# Altium footprint library CameraCageBB.PcbLib: 29 footprints (part 1 of 2)
Each footprint in its own frame and in the unit in brackets; x right, y up, seen from the top. Pads: shape width x height; smd on the part's side, far side on the other; paste and mask are expansions set on the pad; w line width, h text height; cw(c..) or ccw(c..) is an arc to the next point about the centre after c.
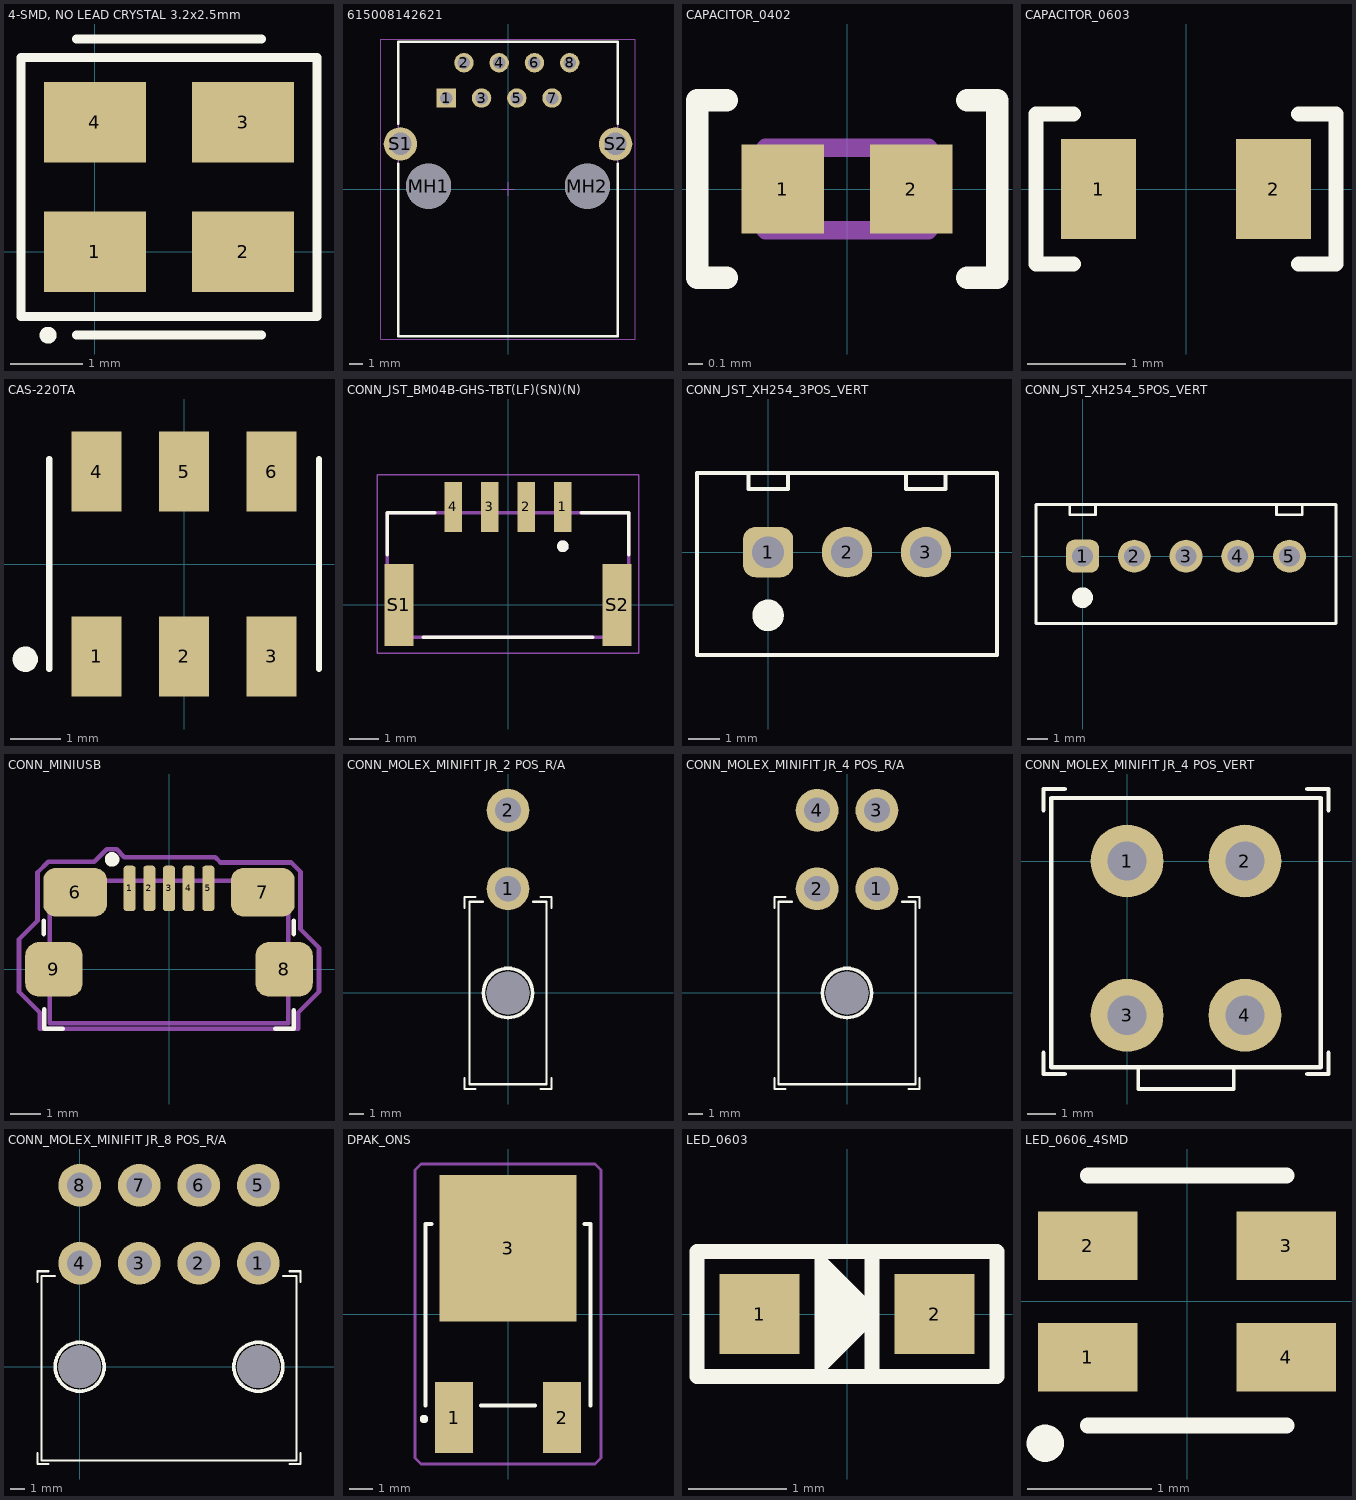
[diagram p0: the footprints below, top view; thin cyan lines are the x and y axes]

## 4-SMD, NO LEAD CRYSTAL 3.2x2.5mm [mm]
pads (4):
  rrect0% 1.4x1.1 smd: 1(0,0) 2(2.032,0) 3(2.032,1.778) 4(0,1.778)
Top Overlay:
  circle w0.127: c-0.644,-1.144 r0.052
  lines w0.127: -0.254,-1.143 2.286,-1.143 ; -0.254,2.921 2.286,2.921 ; -1.016,-0.889 -1.016,2.667 3.048,2.667 3.048,-0.889 -1.016,-0.889
3D body "User Library-Crystal_ECX-32.STEP": height 0.82, standoff 0, extent -0.584,-0.361 2.616,2.139

## 615008142621 [mm] "Modular Jack Horizontal Shielded Rear Grounding Post 8P8C Tab Down"
height 13.3
pads (12):
  rect 1.4x1.4 hole 0.9: 1(-4.445,6.55)
  round 1.4 hole 0.9: 2(-3.175,9.09) 3(-1.905,6.55) 4(-0.635,9.09) 5(0.635,6.55) 6(1.905,9.09) 7(3.175,6.55) 8(4.445,9.09)
  round 3.25 hole 3.25 unplated: MH1(-5.715,0.2) MH2(5.715,0.2)
  round 2.4 hole 1.6: S1(-7.75,3.25) S2(7.75,3.25)
Top Overlay:
  lines w0.2: -7.9,1.8 -7.9,-10.6 7.9,-10.6 7.9,1.8 ; -7.9,4.7 -7.9,10.6 7.9,10.6 7.9,4.7
Mechanical 13:
  lines w0.1: -7.9,-10.6 -7.9,10.6 7.9,10.6 7.9,-10.6 -7.9,-10.6
Mechanical 15:
  lines w0.05: -0.5,0 0.5,0 ; 0,-0.5 0,0.5 ; -9.15,-10.8 9.15,-10.8 9.15,10.8 -9.15,10.8 -9.15,-10.8
3D body "615008142621 (rev1).stp": height 13.65, standoff -3.69, extent -7.94,-10.6 7.94,10.6

## CAPACITOR_0402 [mm]
pads (2):
  rect 0.56x0.6 smd: 1(-0.435,0) 2(0.435,0)
Top Overlay:
  lines w0.152: -0.816,-0.6 -1.016,-0.6 -1.016,0.6 -0.815,0.6 ; 0.815,-0.6 1.016,-0.6 1.016,0.6 0.816,0.6
Mechanical 13:
  lines w0.127: -0.55,-0.28 0.55,-0.28 0.55,0.28 -0.55,0.28 -0.55,-0.28
3D body "GRT155R70J105KE01D.STEP": height 0.51, standoff 0.01, extent -0.5,-0.275 0.5,0.275

## CAPACITOR_0603 [mil] "CAPACITOR 0603"
pads (2):
  rect 30x40 smd: 1(-35,0) 2(35,0)
Top Overlay:
  lines w6: -45,-30 -60,-30 -60,30 -45,30 ; 45,-30 60,-30 60,30 45,30
3D body "Capcap.SLDPRT": height 31.5, standoff 0, extent -31.49,-15.74 31.5,15.75

## CAS-220TA [mm] "SWITCH SLIDE DPDT 100MA 6V"
pads (6):
  rrect0% 1x1.6 smd: 1(-1.75,-1.85) 2(0,-1.85) 3(1.75,-1.85) 4(-1.75,1.85) 5(0,1.85) 6(1.75,1.85)
Top Overlay:
  circle w0.254: c-3.175,-1.905 r0.127
  lines w0.127: -2.7,-2.1 -2.7,2.1 ; 2.7,-2.1 2.7,2.1
3D body "CAS-220TA.stp": height 2.51, standoff 0.01, extent -2.7,-2.1 2.7,2.1

## CONN_JST_BM04B-GHS-TBT(LF)(SN)(N) [mm] "JST GH Pitch 4 Pos Vertical"
pads (6):
  rect 0.6x1.7 smd: 1(1.875,3.35) 2(0.625,3.35) 3(-0.625,3.35) 4(-1.875,3.35)
  rect 1x2.8 smd: S1(-3.725,0) S2(3.725,0)
Top Overlay:
  circle w0.2: c1.875,2.006 r0.1
  lines w0.127: -4.125,1.72 -4.125,3.15 -2.5,3.15 ; -2.9,-1.1 2.9,-1.1 ; 2.5,3.15 4.125,3.15 4.125,1.72
Mechanical 13:
  circle w0.2: c1.875,2.006 r0.1
  lines w0.127: -4.125,-1.1 4.125,-1.1 4.125,3.15 -4.125,3.15 -4.125,-1.1
Mechanical 15:
  lines w0.05: -4.475,-1.65 4.475,-1.65 4.475,4.45 -4.475,4.45 -4.475,-1.65
3D body "BM04B-GHS-TBT(LF)(SN)(N)--3DModel-STEP-46669.STEP": height 4.15, standoff 0, extent -4.125,-1.125 4.125,3.825

## CONN_JST_XH254_3POS_VERT [mm] "JST XH 2.54mm Pitch 3 Pos Vertical"
pads (3):
  rrect50% 1.62x1.62 hole 1.02: 1(0,0)
  round 1.62 hole 1.02: 2(2.54,0) 3(5.08,0)
Top Overlay:
  circle w0.508: c0,-2.032 r0.254
  lines w0.127: -2.286,-3.302 -2.286,2.54 7.366,2.54 7.366,-3.302 -2.286,-3.302 ; -0.635,2.032 -0.635,2.54 0.635,2.54 0.635,2.032 -0.635,2.032 ; 4.445,2.032 5.715,2.032 5.715,2.54 4.445,2.54 4.445,2.032
3D body "JST - XH - Thru (V) - 3Pin - 2.54mm.stp": height 7.21, standoff -3, extent -2.337,-3.353 7.417,2.489

## CONN_JST_XH254_5POS_VERT [mm] "JST XH 2.54mm Pitch 5 Pos Vertical"
pads (5):
  rrect50% 1.62x1.62 hole 1.02: 1(0,0)
  round 1.62 hole 1.02: 2(2.54,0) 3(5.08,0) 4(7.62,0) 5(10.16,0)
Top Overlay:
  circle w0.508: c0,-2.032 r0.254
  lines w0.127: -2.286,-3.302 12.446,-3.302 12.446,2.54 -2.286,2.54 -2.286,-3.302 ; -0.635,2.032 0.635,2.032 0.635,2.54 -0.635,2.54 -0.635,2.032 ; 9.525,2.032 10.795,2.032 10.795,2.54 9.525,2.54 9.525,2.032
3D body "JST - XH - Thru (V) - 5Pin - 2.54mm.stp": height 7.21, standoff -3, extent -2.337,-3.353 12.497,2.489

## CONN_MINIUSB [mm] "USB2.0 Micro-B Receptacle SMD R/A"
pads (9):
  rrect50% 0.4x1.5 smd: 1(-1.3,2.675) 2(-0.65,2.675) 3(0,2.675) 4(0.65,2.675) 5(1.3,2.675)
  rrect50% 2.1x1.6 smd: 6(-3.1,2.55) 7(3.1,2.55)
  rrect50% 1.9x1.8 smd: 8(3.8,0) 9(-3.8,0)
Top Overlay:
  circle w0.254: c-1.88,3.632 r0.114
  lines w0.152: -4.14,1.168 -4.14,1.6 ; -4.115,-1.321 -4.115,-1.956 -3.505,-1.956 ; 3.505,-1.956 4.115,-1.956 4.115,-1.346 ; 4.115,1.168 4.115,1.6
Mechanical 1:
  lines w0.152: -3.937,-1.778 -3.937,2.921 3.937,2.921 3.937,-1.778 -3.937,-1.778
Top 3D Body:
  lines w0.152: -4.953,-0.737 -4.267,-1.422 -4.267,-1.956 4.267,-1.956 4.267,-1.422 4.953,-0.737 4.953,0.711 4.343,1.321 4.343,1.93 4.343,3.226 4.039,3.531 1.702,3.531 1.524,3.708 -1.473,3.708 -1.727,3.962 -2.057,3.962 -2.464,3.556 -3.988,3.556 -4.343,3.2 -4.343,1.6 -4.953,0.991 -4.953,-0.737
3D body "10118192C.stp": height 2.72, standoff -0.29, extent -3.956,-2.667 3.956,2.994

## CONN_MOLEX_MINIFIT JR_2 POS_R/A [mm] "Molex Minifit Jr 5569 2 Pos R/A"
pads (3):
  round 3 hole 1.8: 1(0,7.3) 2(0,12.8)
  round 3 hole 3 unplated mask+0: ""(0,0)
Top Overlay:
  circle w0.254: c0,0 r1.727
  lines w0.152: -3.048,-5.969 -3.048,-6.731 -2.286,-6.731 ; -3.048,5.969 -3.048,6.731 -2.286,6.731 ; -1.76,6.4 -2.7,6.4 -2.7,-6.4 2.7,-6.4 2.7,6.4 1.76,6.4 ; 2.286,-6.731 3.048,-6.731 3.048,-5.969 ; 2.286,6.731 3.048,6.731 3.048,5.969
3D body "026013114.stp": height 11.4, standoff -3.6, extent -2.7,-6.6 3.1,13.335

## CONN_MOLEX_MINIFIT JR_4 POS_R/A [mm] "Molex Minifit Jr 5569 4 Pos R/A"
pads (5):
  round 3 hole 1.8: 1(2.1,7.3) 2(-2.1,7.3) 3(2.1,12.8) 4(-2.1,12.8)
  round 3 hole 3 unplated mask+0: ""(0,0)
Top Overlay:
  circle w0.254: c0,0 r1.727
  lines w0.152: -5.08,-5.969 -5.08,-6.731 -4.318,-6.731 ; -5.08,5.969 -5.08,6.731 -4.318,6.731 ; -3.86,6.4 -4.8,6.4 -4.8,-6.4 4.8,-6.4 4.8,6.4 3.86,6.4 ; 4.318,-6.731 5.08,-6.731 5.08,-5.969 ; 4.318,6.731 5.08,6.731 5.08,5.969
3D body "026013115.stp": height 11.4, standoff -3.6, extent -4.8,-6.5 5.2,13.435

## CONN_MOLEX_MINIFIT JR_4 POS_VERT [mm] "Molex Minifit Jr 5566 4 Pos Vertical"
pads (4):
  round 2.6 hole 1.4: 1(0,0) 2(4.2,0) 3(0,-5.5) 4(4.2,-5.5)
Top Overlay:
  lines w0.127: 0.4,-8.128 0.4,-7.35 3.8,-7.35 3.8,-8.128 0.4,-8.128
  lines w0.152: -2.98,-6.831 -2.98,-7.593 -2.218,-7.593 ; -2.98,1.805 -2.98,2.567 -2.218,2.567 ; 6.418,-7.593 7.18,-7.593 7.18,-6.831 ; 6.418,2.567 7.18,2.567 7.18,1.805 ; -2.7,-7.35 6.9,-7.35 6.9,2.25 -2.7,2.25 -2.7,-7.35
3D body "039281043.stp": height 12.8, standoff -3.5, extent -3.1,-8.75 7.3,2.25

## CONN_MOLEX_MINIFIT JR_8 POS_R/A [mm] "Molex Minifit Jr 5569 8 Pos R/A"
pads (10):
  round 3 hole 1.801: 1(12.6,7.3) 2(8.4,7.3) 5(12.6,12.8) 6(8.4,12.8)
  round 3 hole 1.8: 3(4.2,7.3) 4(0,7.3) 7(4.2,12.8) 8(0,12.8)
  round 3 hole 3 unplated mask+0: ""(0,0) ""(12.6,0)
Top Overlay:
  circle w0.254: c12.6,0 r1.727
  circle w0.254: c0,0 r1.727
  lines w0.152: -2.98,-6.096 -2.98,-6.858 -2.218,-6.858 ; -2.98,5.969 -2.98,6.731 -2.218,6.731 ; -1.76,6.4 -2.7,6.4 -2.7,-6.604 15.3,-6.604 15.3,6.4 14.36,6.4 ; 14.818,-6.858 15.58,-6.858 15.58,-6.096 ; 14.818,6.731 15.58,6.731 15.58,5.969
3D body "039301080.stp": height 11.01, standoff -3.99, extent -2.7,-6.6 15.7,13.335

## DPAK_ONS [mil]
pads (3):
  rect 63x118 smd: 1(-90,-172.5) 2(90,-172.5)
  rect 228x244 smd: 3(0,109.5)
Top Overlay:
  circle w10: c-140,-175 r2
  lines w6: -137.5,-152.5 -137.5,150 -127.1,150 ; -45.4,-152.5 45.4,-152.5 ; 127.1,150 137.5,150 137.5,-152.5
Top 3D Body:
  lines w5: -155,-240 -145,-250 145,-250 155,-240 155,240 145,250 -145,250 -155,240 -155,-240
3D body: height 10, standoff 0, extent 0,0 10,10
3D body "IRFR5305TRPBF_INF.step": height 94.09, standoff -2.01, extent -128.5,-156.41 128.51,160.12

## LED_0603 [mil] "LED 0603"
pads (2):
  rect 32x32 smd: 1(-35,0) 2(35,0)
Top Overlay:
  region: -10,-20 10,0 -10,20
  lines w4: -11,-25 -11,-20 ; -11,20 -11,25
  lines w6: 10,-25 10,25 ; -60,-25 -60,25 60,25 60,-25 -60,-25 ; -10,-20 -10,20 10,0 -10,-20
3D body "150060AS75000_STP_150060xS75000_rev1.stp": height 27.56, standoff 0, extent -31.49,-15.74 31.51,15.75

## LED_0606_4SMD [mm]
pads (4):
  rrect0% 0.8x0.55 smd: 1(-0.8,-0.45) 2(-0.8,0.45) 3(0.8,0.45) 4(0.8,-0.45)
Top Overlay:
  circle w0.15: c-1.143,-1.143 r0.075
  lines w0.127: -0.8,-1 0.8,-1 ; -0.8,1.016 0.8,1.016
3D body "EAST1616RGBB4--3DModel-STEP-56544.STEP": height 0.35, standoff 0, extent -0.8,-0.8 0.8,0.8